# Altium integrated library Xilinx Virtex-E.IntLib: 288 symbols (part 13 of 73)
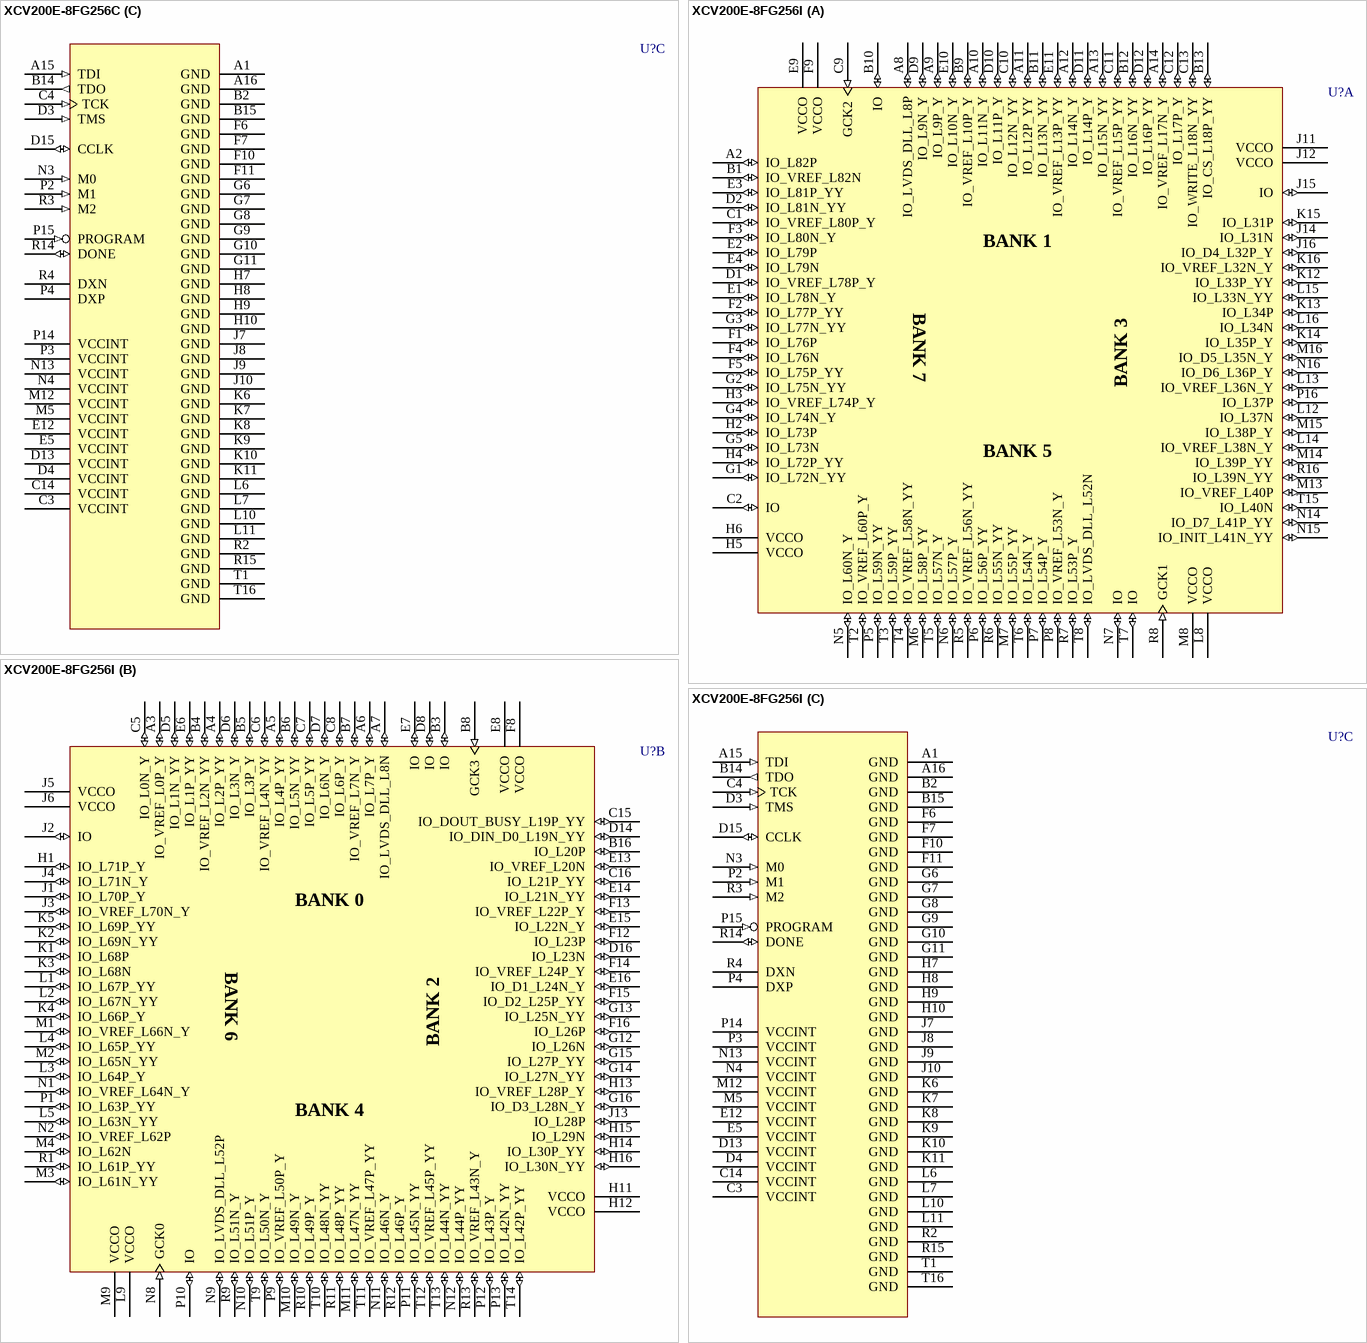
[diagram p505: symbols XCV200E-8FG256C to XCV200E-8FG256I]

## XCV200E-8FG256I
designator U?
Virtex-E 1.8V FPGA, 256-Ball FBGA, Industrial Grade; PackageDocument: ver1.1, Apr-2001; Note: Solder pads are defined by the copper, i.e. non-soldermask defined (NSMD); Published: 19-Sep-2001; LatestRevisionDate: 17-Jul-2002; LatestRevisionNote: Re-released for DXP Platform.; DatasheetDocument: Mar-2003; PackageReference: FG256; Publisher: Altium Limited; Code_JEDEC: MO-151-AAF-1; Code_IPC: PBGA 17X17 FE256
footprint FG256 (256-Ball Fine Pitch Ball Grid Array (FG256))
3D model XCV200E-FG256 (256-Ball Fine Pitch Ball Grid Array (FG256))
signal-integrity model XCV200E_FG256 (Virtex-E)
part A pins: A2 IO_L82P (io), A8 IO_LVDS_DLL_L8P (io), A9 IO_L9P_Y (io), A10 IO_L11N_Y (io), A11 IO_L12P_YY (io), A12 IO_L14N_Y (io), A13 IO_L15N_YY (io), A14 IO_VREF_L17N_Y (io), B1 IO_VREF_L82N (io), B9 IO_VREF_L10P_Y (io), B10 IO (io), B11 IO_L13N_YY (io), B12 IO_L16N_YY (io), B13 IO_CS_L18P_YY (io), C1 IO_VREF_L80P_Y (io), C2 IO (io), C9 GCK2 (in), C10 IO_L12N_YY (io), C11 IO_VREF_L15P_YY (io), C12 IO_L17P_Y (io), C13 IO_WRITE_L18N_YY (io), D1 IO_VREF_L78P_Y (io), D2 IO_L81N_YY (io), D9 IO_L9N_Y (io), D10 IO_L11P_Y (io), D11 IO_L14P_Y (io), D12 IO_L16P_YY (io), E1 IO_L78N_Y (io), E2 IO_L79P (io), E3 IO_L81P_YY (io), E4 IO_L79N (io), E9 VCCO (power), E10 IO_L10N_Y (io), E11 IO_VREF_L13P_YY (io), F1 IO_L76P (io), F2 IO_L77P_YY (io), F3 IO_L80N_Y (io), F4 IO_L76N (io), F5 IO_L75P_YY (io), F9 VCCO (power), G1 IO_L72N_YY (io), G2 IO_L75N_YY (io), G3 IO_L77N_YY (io), G4 IO_L74N_Y (io), G5 IO_L73N (io), H2 IO_L73P (io), H3 IO_VREF_L74P_Y (io), H4 IO_L72P_YY (io), H5 VCCO (power), H6 VCCO (power), J11 VCCO (power), J12 VCCO (power), J14 IO_L31N (io), J15 IO (io), J16 IO_D4_L32P_Y (io), K12 IO_L33P_YY (io), K13 IO_L34P (io), K14 IO_L35P_Y (io), K15 IO_L31P (io), K16 IO_VREF_L32N_Y (io), L8 VCCO (power), L12 IO_L37N (io), L13 IO_VREF_L36N_Y (io), L14 IO_VREF_L38N_Y (io), L15 IO_L33N_YY (io), L16 IO_L34N (io), M6 IO_L58P_YY (io), M7 IO_L55P_YY (io), M8 VCCO (power), M13 IO_VREF_L40P (io), M14 IO_L39P_YY (io), M15 IO_L38P_Y (io), M16 IO_D5_L35N_Y (io), N5 IO_L60N_Y (io), N6 IO_L57P_Y (io), N7 IO (io), N14 IO_D7_L41P_YY (io), N15 IO_INIT_L41N_YY (io), N16 IO_D6_L36P_Y (io), P5 IO_L59N_YY (io), P6 IO_L56P_YY (io), P7 IO_L54P_Y (io), P8 IO_VREF_L53N_Y (io), P16 IO_L37P (io), R5 IO_VREF_L56N_YY (io), R6 IO_L55N_YY (io), R7 IO_L53P_Y (io), R8 GCK1 (in), R16 IO_L39N_YY (io), T2 IO_VREF_L60P_Y (io), T3 IO_L59P_YY (io), T4 IO_VREF_L58N_YY (io), T5 IO_L57N_Y (io), T6 IO_L54N_Y (io), T7 IO (io), T8 IO_LVDS_DLL_L52N (io), T15 IO_L40N (io)
part B pins: A3 IO_VREF_L0P_Y (io), A4 IO_L2P_YY (io), A5 IO_L4P_YY (io), A6 IO_L7P_Y (io), A7 IO_LVDS_DLL_L8N (io), B3 IO (io), B4 IO_VREF_L2N_YY (io), B5 IO_L3P_Y (io), B6 IO_L5N_YY (io), B7 IO_VREF_L7N_Y (io), B8 GCK3 (in), B16 IO_L20P (io), C5 IO_L0N_Y (io), C6 IO_VREF_L4N_YY (io), C7 IO_L5P_YY (io), C8 IO_L6P_Y (io), C15 IO_DOUT_BUSY_L19P_YY (io), C16 IO_L21P_YY (io), D5 IO_L1N_YY (io), D6 IO_L3N_Y (io), D7 IO_L6N_Y (io), D8 IO (io), D14 IO_DIN_D0_L19N_YY (io), D16 IO_L23N (io), E6 IO_L1P_YY (io), E7 IO (io), E8 VCCO (power), E13 IO_VREF_L20N (io), E14 IO_L21N_YY (io), E15 IO_L22N_Y (io), E16 IO_D1_L24N_Y (io), F8 VCCO (power), F12 IO_L23P (io), F13 IO_VREF_L22P_Y (io), F14 IO_VREF_L24P_Y (io), F15 IO_D2_L25P_YY (io), F16 IO_L26P (io), G12 IO_L26N (io), G13 IO_L25N_YY (io), G14 IO_L27N_YY (io), G15 IO_L27P_YY (io), G16 IO_D3_L28N_Y (io), H1 IO_L71P_Y (io), H11 VCCO (power), H12 VCCO (power), H13 IO_VREF_L28P_Y (io), H14 IO_L30P_YY (io), H15 IO_L29N (io), H16 IO_L30N_YY (io), J1 IO_L70P_Y (io), J2 IO (io), J3 IO_VREF_L70N_Y (io), J4 IO_L71N_Y (io), J5 VCCO (power), J6 VCCO (power), J13 IO_L28P (io), K1 IO_L68P (io), K2 IO_L69N_YY (io), K3 IO_L68N (io), K4 IO_L66P_Y (io), K5 IO_L69P_YY (io), L1 IO_L67P_YY (io), L2 IO_L67N_YY (io), L3 IO_L64P_Y (io), L4 IO_L65P_YY (io), L5 IO_L63N_YY (io), L9 VCCO (power), M1 IO_VREF_L66N_Y (io), M2 IO_L65N_YY (io), M3 IO_L61N_YY (io), M4 IO_L62N (io), M9 VCCO (power), M10 IO_L49N_Y (io), M11 IO_L47N_YY (io), N1 IO_VREF_L64N_Y (io), N2 IO_VREF_L62P (io), N8 GCK0 (in), N9 IO_LVDS_DLL_L52P (io), N10 IO_L51P_Y (io), N11 IO_L46N_Y (io), N12 IO_L44P_YY (io), P1 IO_L63P_YY (io), P9 IO_VREF_L50P_Y (io), P10 IO (io), P11 IO_L45N_YY (io), P12 IO_L43P_Y (io), P13 IO_L42N_YY (io), R1 IO_L61P_YY (io), R9 IO_L51N_Y (io), R10 IO_L49P_Y (io), R11 IO_L48P_YY (io), R12 IO_L46P_Y (io), R13 IO_VREF_L43N_Y (io), T9 IO_L50N_Y (io), T10 IO_L48N_YY (io), T11 IO_VREF_L47P_YY (io), T12 IO_VREF_L45P_YY (io), T13 IO_L44N_YY (io), T14 IO_L42P_YY (io)
part C pins: A1 GND (power), A15 TDI (in), A16 GND (power), B2 GND (power), B14 TDO (out), B15 GND (power), C3 VCCINT (power), C4 TCK (in), C14 VCCINT (power), D3 TMS (in), D4 VCCINT (power), D13 VCCINT (power), D15 CCLK (io), E5 VCCINT (power), E12 VCCINT (power), F6 GND (power), F7 GND (power), F10 GND (power), F11 GND (power), G6 GND (power), G7 GND (power), G8 GND (power), G9 GND (power), G10 GND (power), G11 GND (power), H7 GND (power), H8 GND (power), H9 GND (power), H10 GND (power), J7 GND (power), J8 GND (power), J9 GND (power), J10 GND (power), K6 GND (power), K7 GND (power), K8 GND (power), K9 GND (power), K10 GND (power), K11 GND (power), L6 GND (power), L7 GND (power), L10 GND (power), L11 GND (power), M5 VCCINT (power), M12 VCCINT (power), N3 M0 (in), N4 VCCINT (power), N13 VCCINT (power), P2 M1 (in), P3 VCCINT (power), P4 DXP, P14 VCCINT (power), P15 PROGRAM (in), R2 GND (power), R3 M2 (in), R4 DXN, R14 DONE (io), R15 GND (power), T1 GND (power), T16 GND (power)
part A text: BANK 1; BANK 7; BANK 3; BANK 5
part B text: BANK 0; BANK 6; BANK 2; BANK 4

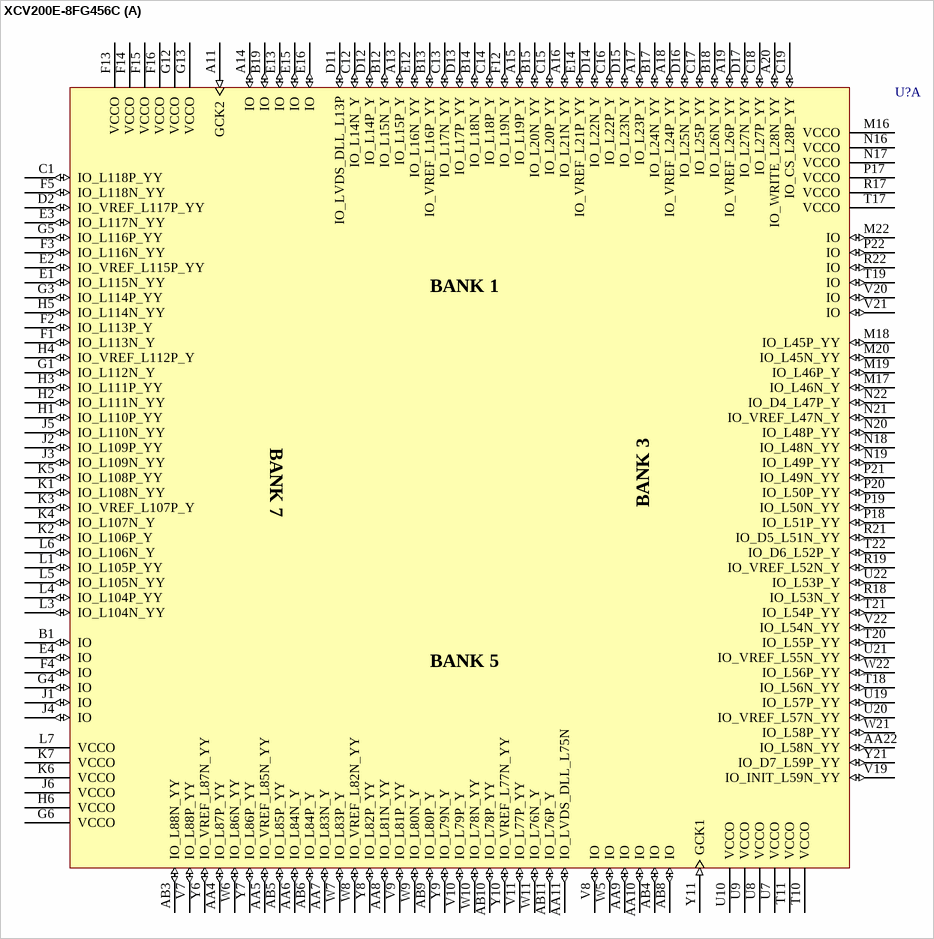
[diagram p67: symbol XCV200E-8FG456C]

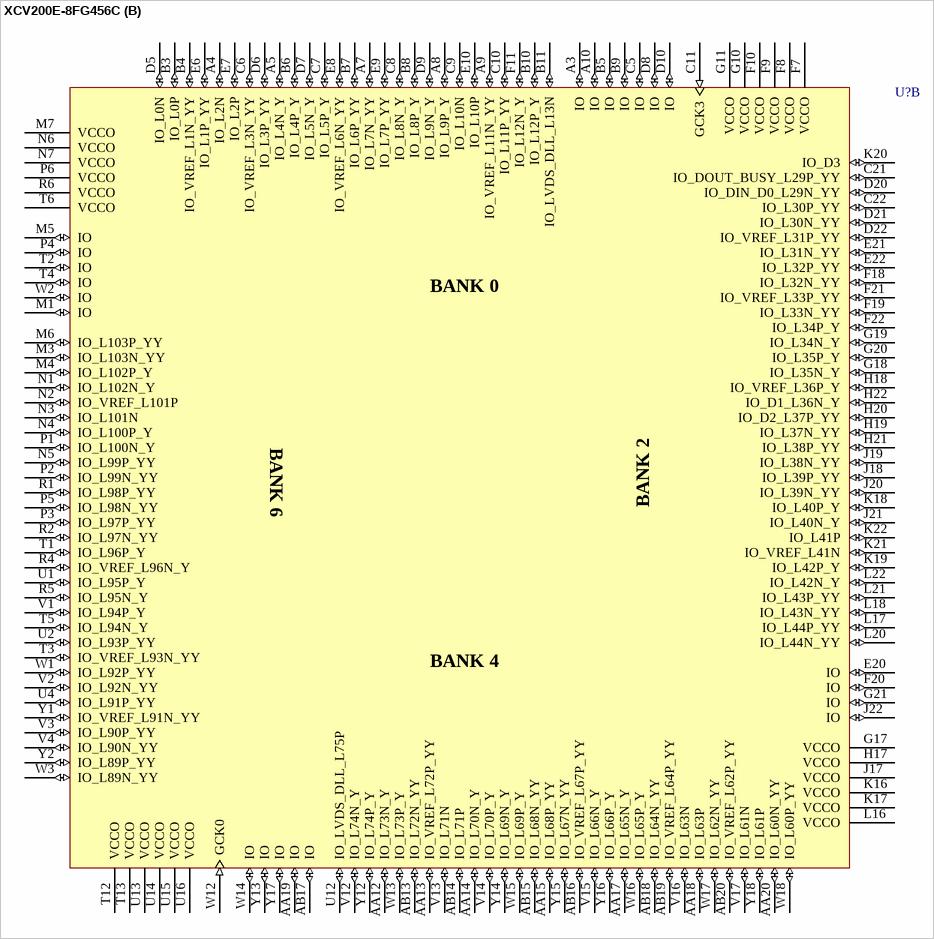
[diagram p68: symbol XCV200E-8FG456C]

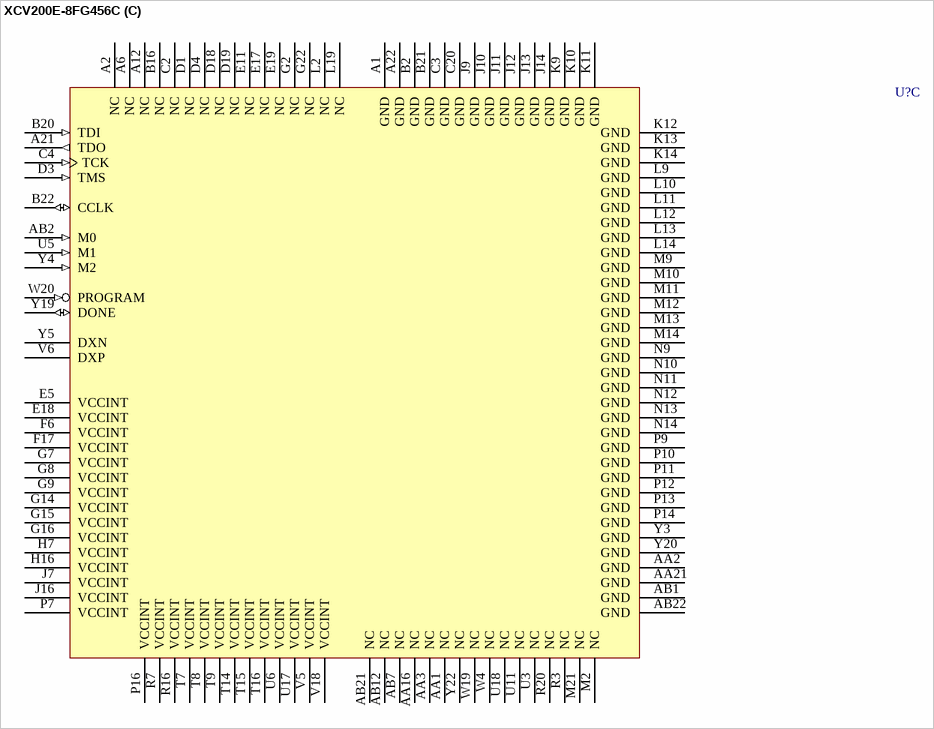
[diagram p69: symbol XCV200E-8FG456C]